# Altium schematic symbol library NCP1117ST50T3G.SchLib: 1 symbol
Pins are listed as number, name and electrical type; pins without a type are passive.

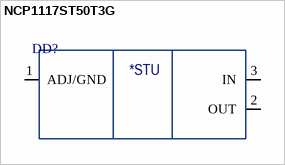
[diagram p0: symbol NCP1117ST50T3G]

## NCP1117ST50T3G
designator DD?  (value not drawn)
No Description Available; Vendor: ON Semiconductor; SourceLibrary: ONSemi_2017-12-12_4; Manufacturer_Part_Number: NCP1117ST50T3G; Copyright: Copyright (C) 2016 Accelerated Designs. All rights reserved; RefDes: RefDes; Type: DEV
footprint SOT223-3_ONS
pins: 1 ADJ/GND, 2 OUT, 3 IN
text: *STU